# EAGLE library part STM_NUCLEO-32 (library CASE-MCU)
STM Nucleo-32 Boards Description: STM Nucleo-32 boards. Should fit at least: NUCLEO-F031K6, NUCLEO-F042K6, NUCLEO-F301K8, NUCLEO-F303K8, NUCLEO-L011K4, NUCLEOL031K6, NUCLEO-L412KB, NUCLEO-L432KC Links: STM Nucleo-32 user manual <https://www.st.com/content/ccc/resource/technical/document/user_manual/e3/0e/88/05/e8/74/43/a0/DM00231744.pdf/files/DM00231744.pdf/jcr:content/translations/en.DM00231744.pdf> Website <https://www.st.com/en/evaluation-tools/stm32-nucleo-boards.html>
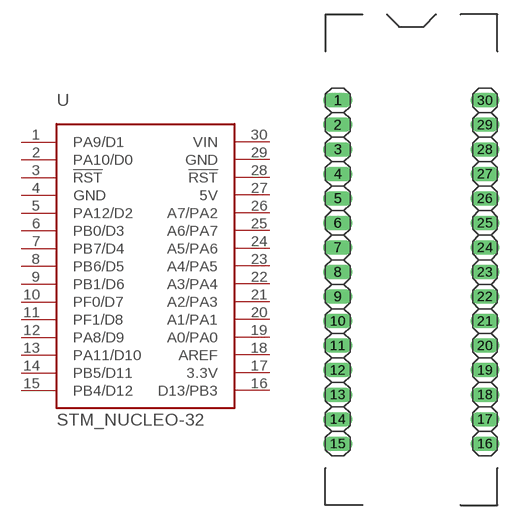
[diagram p2: symbol with the pads of NUCLEO-32; footprint NUCLEO-32]

Designator prefix U

## STM_NUCLEO-32  [NUCLEO-32]
1  PA9/D1
2  PA10/D0
3  !RST  in
4  GND  pwr
5  PA12/D2
6  PB0/D3
7  PB7/D4
8  PB6/D5
9  PB1/D6
10  PF0/D7
11  PF1/D8
12  PA8/D9
13  PA11/D10
14  PB5/D11
15  PB4/D12
16  D13/PB3
17  3.3V  pwr
18  AREF  in
19  A0/PA0
20  A1/PA1
21  A2/PA3
22  A3/PA4
23  A4/PA5
24  A5/PA6
25  A6/PA7
26  A7/PA2
27  5V  pwr
28  !RST  in
29  GND  pwr
30  VIN  pwr

## Footprint NUCLEO-32 (pad centres in mm)
drill 1.016 long: 1 -7.62,17.78; 2 -7.62,15.24; 3 -7.62,12.7; 4 -7.62,10.16; 5 -7.62,7.62; 6 -7.62,5.08; 7 -7.62,2.54; 8 -7.62,0; 9 -7.62,-2.54; 10 -7.62,-5.08; 11 -7.62,-7.62; 12 -7.62,-10.16; 13 -7.62,-12.7; 14 -7.62,-15.24; 15 -7.62,-17.78; 16 7.62,-17.78; 17 7.62,-15.24; 18 7.62,-12.7; 19 7.62,-10.16; 20 7.62,-7.62; 21 7.62,-5.08; 22 7.62,-2.54; 23 7.62,0; 24 7.62,2.54; 25 7.62,5.08; 26 7.62,7.62; 27 7.62,10.16; 28 7.62,12.7; 29 7.62,15.24; 30 7.62,17.78